# EAGLE library part POLOLU_DRV8835_H_BRIDGE_BREAKOUT (library me433-2021)
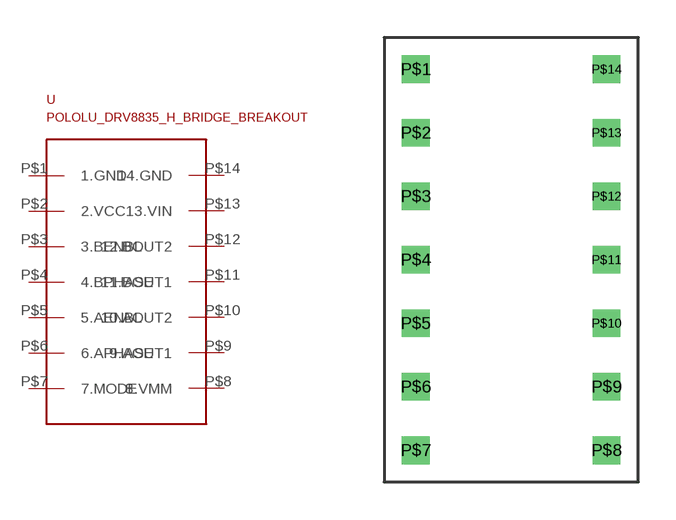
[diagram p10: symbol with the pads of POLOLU_DRV8835_H_BRIDGE_BREAKOUT; footprint POLOLU_DRV8835_H_BRIDGE_BREAKOUT]

Designator prefix -

## POLOLU_DRV8835_H_BRIDGE_BREAKOUT  [POLOLU_DRV8835_H_BRIDGE_BREAKOUT]
P$1  1.GND
P$2  2.VCC
P$3  3.BENBL
P$4  4.BPHASE
P$5  5.AENBL
P$6  6.APHASE
P$7  7.MODE
P$8  8.VMM
P$9  9.AOUT1
P$10  10.AOUT2
P$11  11.BOUT1
P$12  12.BOUT2
P$13  13.VIN
P$14  14.GND

## Footprint POLOLU_DRV8835_H_BRIDGE_BREAKOUT (pad centres in mm)
drill 0.6 square: P$1 -3.81,7.62; P$2 -3.81,5.08; P$3 -3.81,2.54; P$4 -3.81,0; P$5 -3.81,-2.54; P$6 -3.81,-5.08; P$7 -3.81,-7.62; P$8 3.81,-7.62; P$9 3.81,-5.08; P$10 3.81,-2.54; P$11 3.81,0; P$12 3.81,2.54; P$13 3.81,5.08; P$14 3.81,7.62